# Altium footprint library USB PCB Connector PAD.PcbLib: 1 footprints
Each footprint in its own frame and in the unit in brackets; x right, y up, seen from the top. Pads: shape width x height; smd on the part's side, far side on the other; paste and mask are expansions set on the pad; w line width, h text height; cw(c..) or ccw(c..) is an arc to the next point about the centre after c.
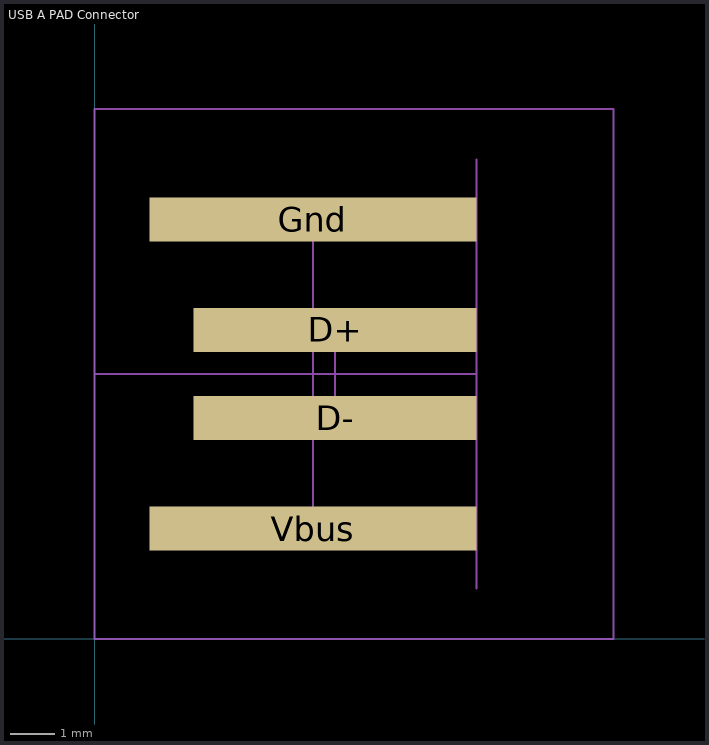
[diagram p0: the footprint, top view; thin cyan lines are the x and y axes]

## USB A PAD Connector [mm]
pads (4):
  rect 6.41x1 smd: D+(5.445,7) D-(5.445,5)
  rect 7.41x1 smd: Gnd(4.945,9.5) Vbus(4.945,2.5)
Mechanical 13:
  lines w0.051: 4.945,2.5 4.945,6 4.945,9.5 ; 5.445,5 5.445,6 5.445,7 ; 8.65,1.15 8.65,6 ; 8.65,10.85 8.65,6 ; 0,6 0,0 11.75,0 11.75,6 11.75,12 0,12 0,6 ; 0,6 8.65,6